# Altium schematic symbol library FX6-20S-0.8SV(71).SchLib: 1 symbol
Pins are listed as number, name and electrical type; pins without a type are passive.

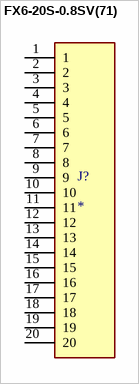
[diagram p0: symbol FX6-20S-0.8SV(71)]

## FX6-20S-0.8SV(71)
designator J?
Stacking Board Connector, 5-7mm Height, FX6 Series, Receptacle, 0.8 mm, 20, Surface Mount; MP: FX6-20S-0.8SV(71); Package: None; Price: None; Value: *; Availability: Unavailable
footprint HRS_FX6-20S-0.8SV(71)
pins: 1, 2, 3, 4, 5, 6, 7, 8, 9, 10, 11, 12, 13, 14, 15, 16, 17, 18, 19, 20